# Altium footprint library Nanjar's Connectors Library.PcbLib: 70 footprints (part 1 of 5)
Each footprint in its own frame and in the unit in brackets; x right, y up, seen from the top. Pads: shape width x height; smd on the part's side, far side on the other; paste and mask are expansions set on the pad; w line width, h text height; cw(c..) or ccw(c..) is an arc to the next point about the centre after c.
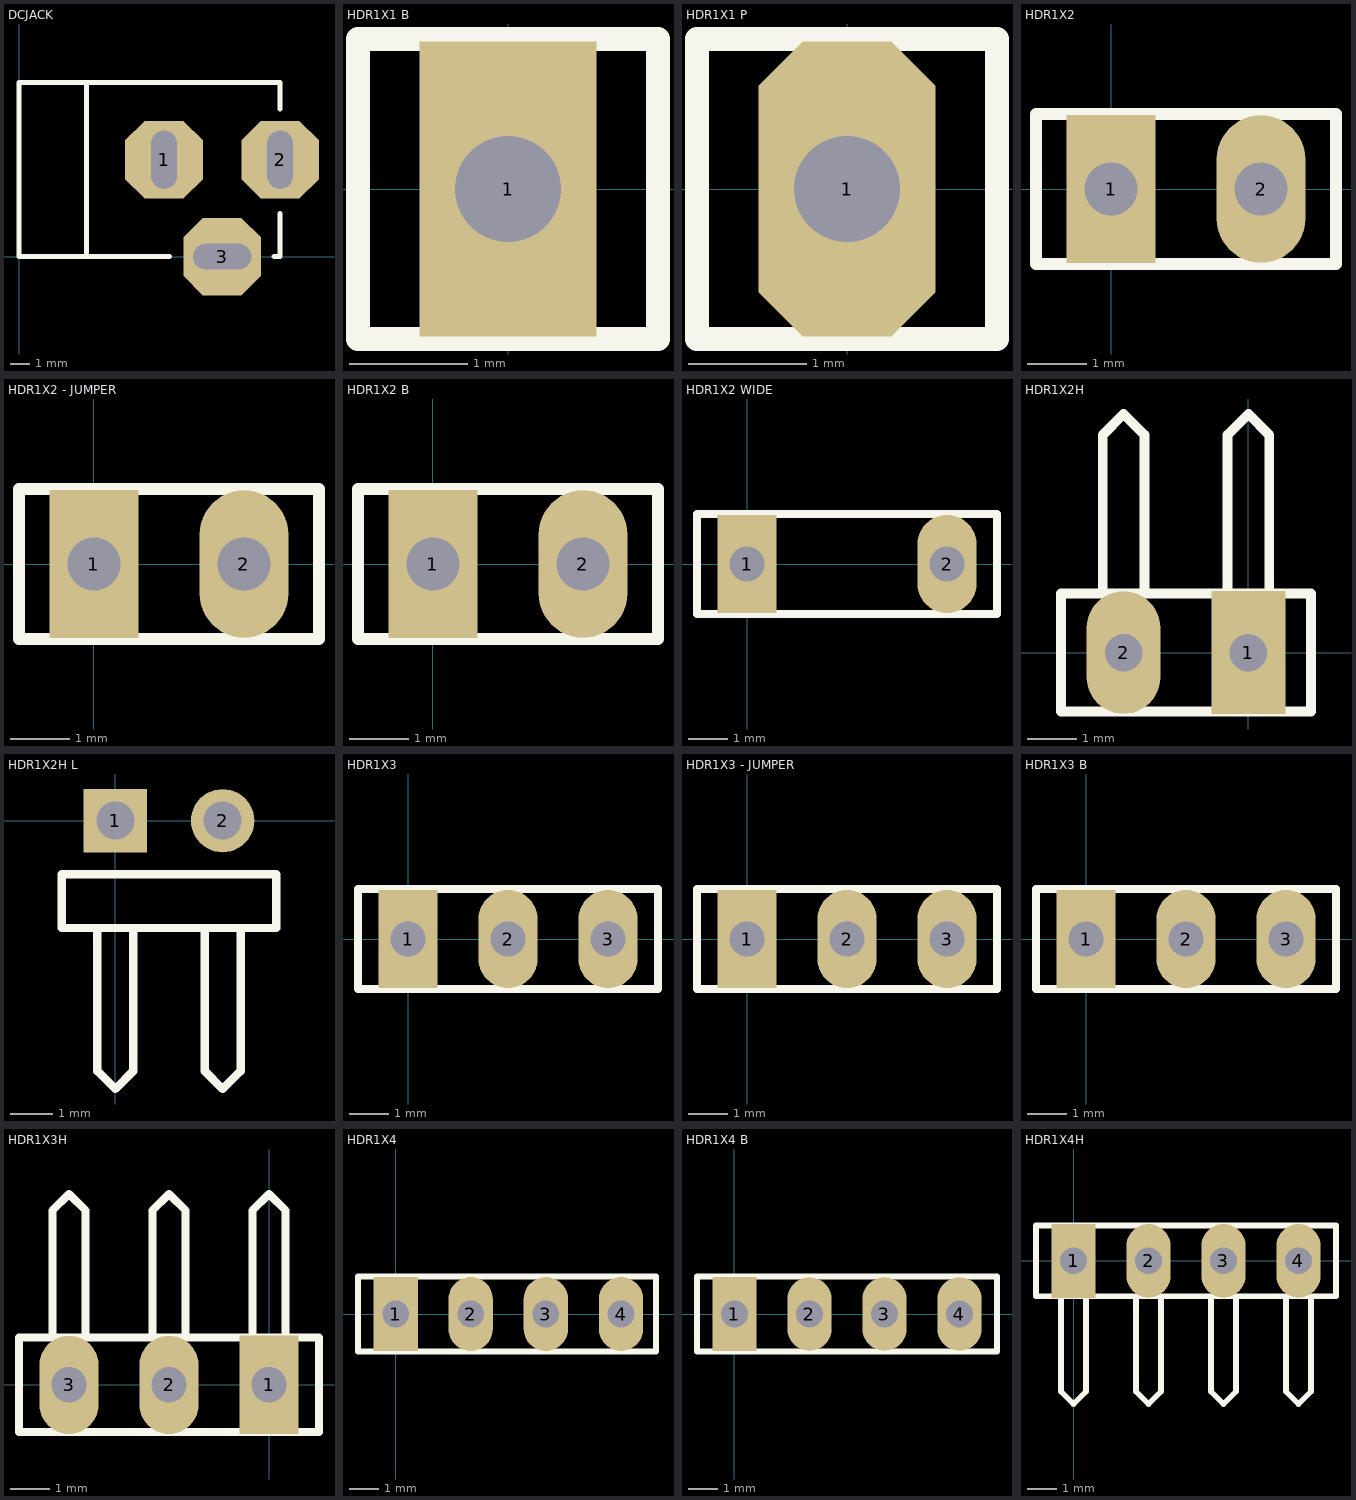
[diagram p0: the footprints below, top view; thin cyan lines are the x and y axes]

## DCJACK [mil]
pads (3):
  oct 158x158 hole 52 slot 118.11 at 90 deg: 1(294.98,197) 2(530.98,197)
  oct 158x158 hole 52 slot 118.11 at 0 deg: 3(412.98,0)
Top Overlay:
  lines w10: 136.98,1 136.98,354 ; 305.98,0 -0.02,0 -0.02,354 136.98,354 ; 518.48,0 530.98,0 530.98,87.5 ; 530.98,300 530.98,354 136.98,354
3D body "power jack.STEP": height 437.01, standoff -161.42, extent -7.88,-7.87 566.93,362.2

## HDR1X1 B [mm] "Connector; Header; 6 Position"
height 1.4
pads (1):
  rect 1.5x2.5 hole 0.9: 1(0,0)
Top Overlay:
  lines w0.2: -1.27,-1.27 1.27,-1.27 1.27,1.27 -1.27,1.27 -1.27,-1.27
3D body "1P.step": height 0.65, standoff -10.35, extent -1.27,-1.27 1.27,1.27

## HDR1X1 P [mm] "Connector; Header; 6 Position"
height 1.4
pads (1):
  oct 1.5x2.5 hole 0.9: 1(0,0)
Top Overlay:
  lines w0.2: -1.27,-1.27 1.27,-1.27 1.27,1.27 -1.27,1.27 -1.27,-1.27
3D body "1P.step": height 8.54, standoff -2.46, extent -1.27,-1.27 1.27,1.27

## HDR1X2 [mm] "Connector; Header; 6 Position"
height 1.4
pads (2):
  rect 1.5x2.5 hole 0.9: 1(0,0)
  oval 1.5x2.5 hole 0.9: 2(2.54,0)
Top Overlay:
  lines w0.2: -1.27,-1.27 -1.27,1.27 3.81,1.27 3.81,-1.27 -1.27,-1.27
3D body "1P.step": height 8.54, standoff -2.46, extent 1.27,-1.27 3.81,1.27
3D body "1P.step": height 8.54, standoff -2.46, extent -1.27,-1.27 1.27,1.27

## HDR1X2 - JUMPER [mm] "Connector; Header; 6 Position"
height 1.4
pads (2):
  rect 1.5x2.5 hole 0.9: 1(0,0)
  oval 1.5x2.5 hole 0.9: 2(2.54,0)
Top Overlay:
  lines w0.2: -1.27,-1.27 -1.27,1.27 3.81,1.27 3.81,-1.27 -1.27,-1.27
3D body "1P.step": height 8.54, standoff -2.46, extent -1.27,-1.27 1.27,1.27
3D body "1P.step": height 8.54, standoff -2.46, extent 1.27,-1.27 3.81,1.27
3D body: height 9, standoff 8, extent 0.375,-0.15 2.175,0.15
3D body: height 10, standoff 3, extent 1.775,-1.1 3.775,1.1
3D body: height 10, standoff 3, extent -1.225,-1.1 0.775,1.1
3D body: height 7, standoff 3, extent -1.225,-1.1 3.775,1.1

## HDR1X2 B [mm] "Connector; Header; 6 Position"
height 1.4
pads (2):
  rect 1.5x2.5 hole 0.9: 1(0,0)
  oval 1.5x2.5 hole 0.9: 2(2.54,0)
Top Overlay:
  lines w0.2: -1.27,-1.27 -1.27,1.27 3.81,1.27 3.81,-1.27 -1.27,-1.27
3D body "1P.step": height 0.65, standoff -10.35, extent 1.27,-1.27 3.81,1.27
3D body "1P.step": height 0.65, standoff -10.35, extent -1.27,-1.27 1.27,1.27

## HDR1X2 WIDE [mm] "Connector; Header; 6 Position"
height 1.4
pads (2):
  rect 1.5x2.5 hole 0.9: 1(0,0)
  oval 1.5x2.5 hole 0.9: 2(5.08,0)
Top Overlay:
  lines w0.2: -1.27,-1.27 6.35,-1.27 6.35,1.27 -1.27,1.27 -1.27,-1.27

## HDR1X2H [mm] "Connector; Header; 3 Position; Right Angle"
height 2.032
pads (2):
  rect 1.5x2.5 hole 0.762: 1(0,0)
  oval 1.5x2.5 hole 0.762: 2(-2.54,0)
Top Overlay:
  lines w0.2: -3.81,-1.2 1.27,-1.2 1.27,1.2 -3.81,1.2 -3.81,-0.8 ; -3.81,-1.194 -3.81,-1.143 -3.81,-0.762 ; -2.963,1.2 -2.963,4.427 -2.54,4.85 -2.117,4.427 -2.117,1.2 ; -0.423,1.2 -0.423,4.427 0,4.85 0.423,4.427 0.423,1.2
3D body "Pin Header 1x1 TH Angle Pitch 2.54mm.step": height 4.42, standoff -1.7, extent -3.815,-1.27 -1.269,5.02
3D body "Pin Header 1x1 TH Angle Pitch 2.54mm.step": height 4.42, standoff -1.7, extent -1.275,-1.27 1.271,5.02

## HDR1X2H L [mm] "Connector; Header; 2 Position; Right Angle"
height 2.032
pads (2):
  rect 1.5x1.5 hole 0.9: 1(0,0)
  round 1.5 hole 0.9: 2(2.54,0)
Top Overlay:
  lines w0.2: -0.423,-2.54 -0.423,-5.927 0,-6.35 0.423,-5.927 0.423,-2.54 ; 2.117,-2.54 2.117,-5.927 2.54,-6.35 2.963,-5.927 2.963,-2.54 ; -1.27,-2.54 -1.27,-1.27 3.81,-1.27 3.81,-2.54 -1.27,-2.54
3D body "Pin Header 1x1 TH Angle Pitch 2.54mm.stp": height 3.09, standoff -3.2, extent -1.265,-10.796 1.28,0.316
3D body "Pin Header 1x1 TH Angle Pitch 2.54mm.stp": height 3.09, standoff -3.2, extent 1.275,-10.796 3.82,0.316

## HDR1X3 [mm] "Connector; Header; 6 Position"
height 1.4
pads (3):
  rect 1.5x2.5 hole 0.9: 1(0,0)
  oval 1.5x2.5 hole 0.9: 2(2.54,0) 3(5.08,0)
Top Overlay:
  lines w0.2: -1.27,-1.27 6.35,-1.27 6.35,1.27 -1.27,1.27 -1.27,-1.27
3D body "1P.step": height 8.54, standoff -2.46, extent 1.27,-1.27 3.81,1.27
3D body "1P.step": height 8.54, standoff -2.46, extent -1.27,-1.27 1.27,1.27
3D body "1P.step": height 8.54, standoff -2.46, extent 3.81,-1.27 6.35,1.27

## HDR1X3 - JUMPER [mm] "Connector; Header; 6 Position"
height 1.4
pads (3):
  rect 1.5x2.5 hole 0.9: 1(0,0)
  oval 1.5x2.5 hole 0.9: 2(2.54,0) 3(5.08,0)
Top Overlay:
  lines w0.2: -1.27,-1.27 6.35,-1.27 6.35,1.27 -1.27,1.27 -1.27,-1.27
3D body: height 7, standoff 3, extent -1.225,-1.1 3.775,1.1
3D body: height 10, standoff 3, extent -1.225,-1.1 0.775,1.1
3D body: height 10, standoff 3, extent 1.775,-1.1 3.775,1.1
3D body: height 9, standoff 8, extent 0.375,-0.15 2.175,0.15
3D body "1P.step": height 8.54, standoff -2.46, extent 1.27,-1.27 3.81,1.27
3D body "1P.step": height 8.54, standoff -2.46, extent -1.27,-1.27 1.27,1.27
3D body "1P.step": height 8.54, standoff -2.46, extent 3.81,-1.27 6.35,1.27

## HDR1X3 B [mm] "Connector; Header; 6 Position"
height 1.4
pads (3):
  rect 1.5x2.5 hole 0.9: 1(0,0)
  oval 1.5x2.5 hole 0.9: 2(2.54,0) 3(5.08,0)
Top Overlay:
  lines w0.2: -1.27,-1.27 -1.27,1.27 6.35,1.27 6.35,-1.27 -1.27,-1.27
3D body "1P.step": height 0.65, standoff -10.35, extent 3.81,-1.27 6.35,1.27
3D body "1P.step": height 0.65, standoff -10.35, extent 1.27,-1.27 3.81,1.27
3D body "1P.step": height 0.65, standoff -10.35, extent -1.27,-1.27 1.27,1.27

## HDR1X3H [mm] "Connector; Header; 3 Position; Right Angle"
height 2.032
pads (3):
  rect 1.5x2.5 hole 0.9: 1(0,0)
  oval 1.5x2.5 hole 0.9: 2(-2.54,0) 3(-5.08,0)
Top Overlay:
  lines w0.2: -5.503,1.2 -5.503,4.427 -5.08,4.85 -4.657,4.427 -4.657,1.2 ; -2.963,1.2 -2.963,4.427 -2.54,4.85 -2.117,4.427 -2.117,1.2 ; -0.423,1.2 -0.423,4.427 0,4.85 0.423,4.427 0.423,1.2 ; -6.35,-1.2 -6.35,1.2 1.27,1.2 1.27,-1.2 -6.35,-1.2
3D body "Pin Header 1x1 TH Angle Pitch 2.54mm.step": height 4.44, standoff -1.68, extent -1.278,-1.271 1.267,5.019
3D body "Pin Header 1x1 TH Angle Pitch 2.54mm.step": height 4.44, standoff -1.68, extent -3.818,-1.271 -1.273,5.019
3D body "Pin Header 1x1 TH Angle Pitch 2.54mm.step": height 4.44, standoff -1.68, extent -6.358,-1.271 -3.813,5.019

## HDR1X4 [mm] "Connector; Header; 6 Position"
height 1.4
pads (4):
  rect 1.5x2.5 hole 0.9: 1(0,0)
  oval 1.5x2.5 hole 0.9: 2(2.54,0) 3(5.08,0) 4(7.62,0)
Top Overlay:
  lines w0.2: -1.27,-1.27 8.8,-1.27 8.8,1.27 -1.27,1.27 -1.27,-1.27
3D body "1P.step": height 8.54, standoff -2.46, extent 1.27,-1.27 3.81,1.27
3D body "1P.step": height 8.54, standoff -2.46, extent -1.27,-1.27 1.27,1.27
3D body "1P.step": height 8.54, standoff -2.46, extent 6.35,-1.27 8.89,1.27
3D body "1P.step": height 8.54, standoff -2.46, extent 3.81,-1.27 6.35,1.27

## HDR1X4 B [mm] "Connector; Header; 6 Position"
height 1.4
pads (4):
  rect 1.5x2.5 hole 0.9: 1(0,0)
  oval 1.5x2.5 hole 0.9: 2(2.54,0) 3(5.08,0) 4(7.62,0)
Top Overlay:
  lines w0.2: -1.27,-1.27 8.89,-1.27 8.89,1.27 -1.27,1.27 -1.27,-1.27
3D body "1P.step": height 0.65, standoff -10.35, extent -1.27,-1.27 1.27,1.27
3D body "1P.step": height 0.65, standoff -10.35, extent 1.27,-1.27 3.81,1.27
3D body "1P.step": height 0.65, standoff -10.35, extent 3.81,-1.27 6.35,1.27
3D body "1P.step": height 0.65, standoff -10.35, extent 6.35,-1.27 8.89,1.27

## HDR1X4H [mm]
pads (4):
  rect 1.5x2.5 hole 0.9: 1(0,0)
  oval 1.5x2.5 hole 0.9: 2(2.54,0) 3(5.08,0) 4(7.62,0)
Top Overlay:
  lines w0.2: -0.423,-1.2 -0.423,-4.427 0,-4.85 0.423,-4.427 0.423,-1.2 ; 2.117,-1.2 2.117,-4.427 2.54,-4.85 2.963,-4.427 2.963,-1.2 ; 4.657,-1.2 4.657,-4.427 5.08,-4.85 5.503,-4.427 5.503,-1.2 ; 7.197,-1.2 7.197,-4.427 7.62,-4.85 8.043,-4.427 8.043,-1.2 ; -1.27,-1.2 -1.27,1.2 8.89,1.2 8.89,-1.2 -1.27,-1.2
3D body "Pin Header 1x1 TH Angle Pitch 2.54mm.step": height 4.44, standoff -1.68, extent 6.353,-5.019 8.898,1.271
3D body "Pin Header 1x1 TH Angle Pitch 2.54mm.step": height 4.44, standoff -1.68, extent -1.267,-5.019 1.278,1.271
3D body "Pin Header 1x1 TH Angle Pitch 2.54mm.step": height 4.44, standoff -1.68, extent 1.273,-5.019 3.818,1.271
3D body "Pin Header 1x1 TH Angle Pitch 2.54mm.step": height 4.44, standoff -1.68, extent 3.813,-5.019 6.358,1.271